# Altium schematic symbol library Microchip.SchLib: 8 symbols
Pins are listed as number, name and electrical type; pins without a type are passive.

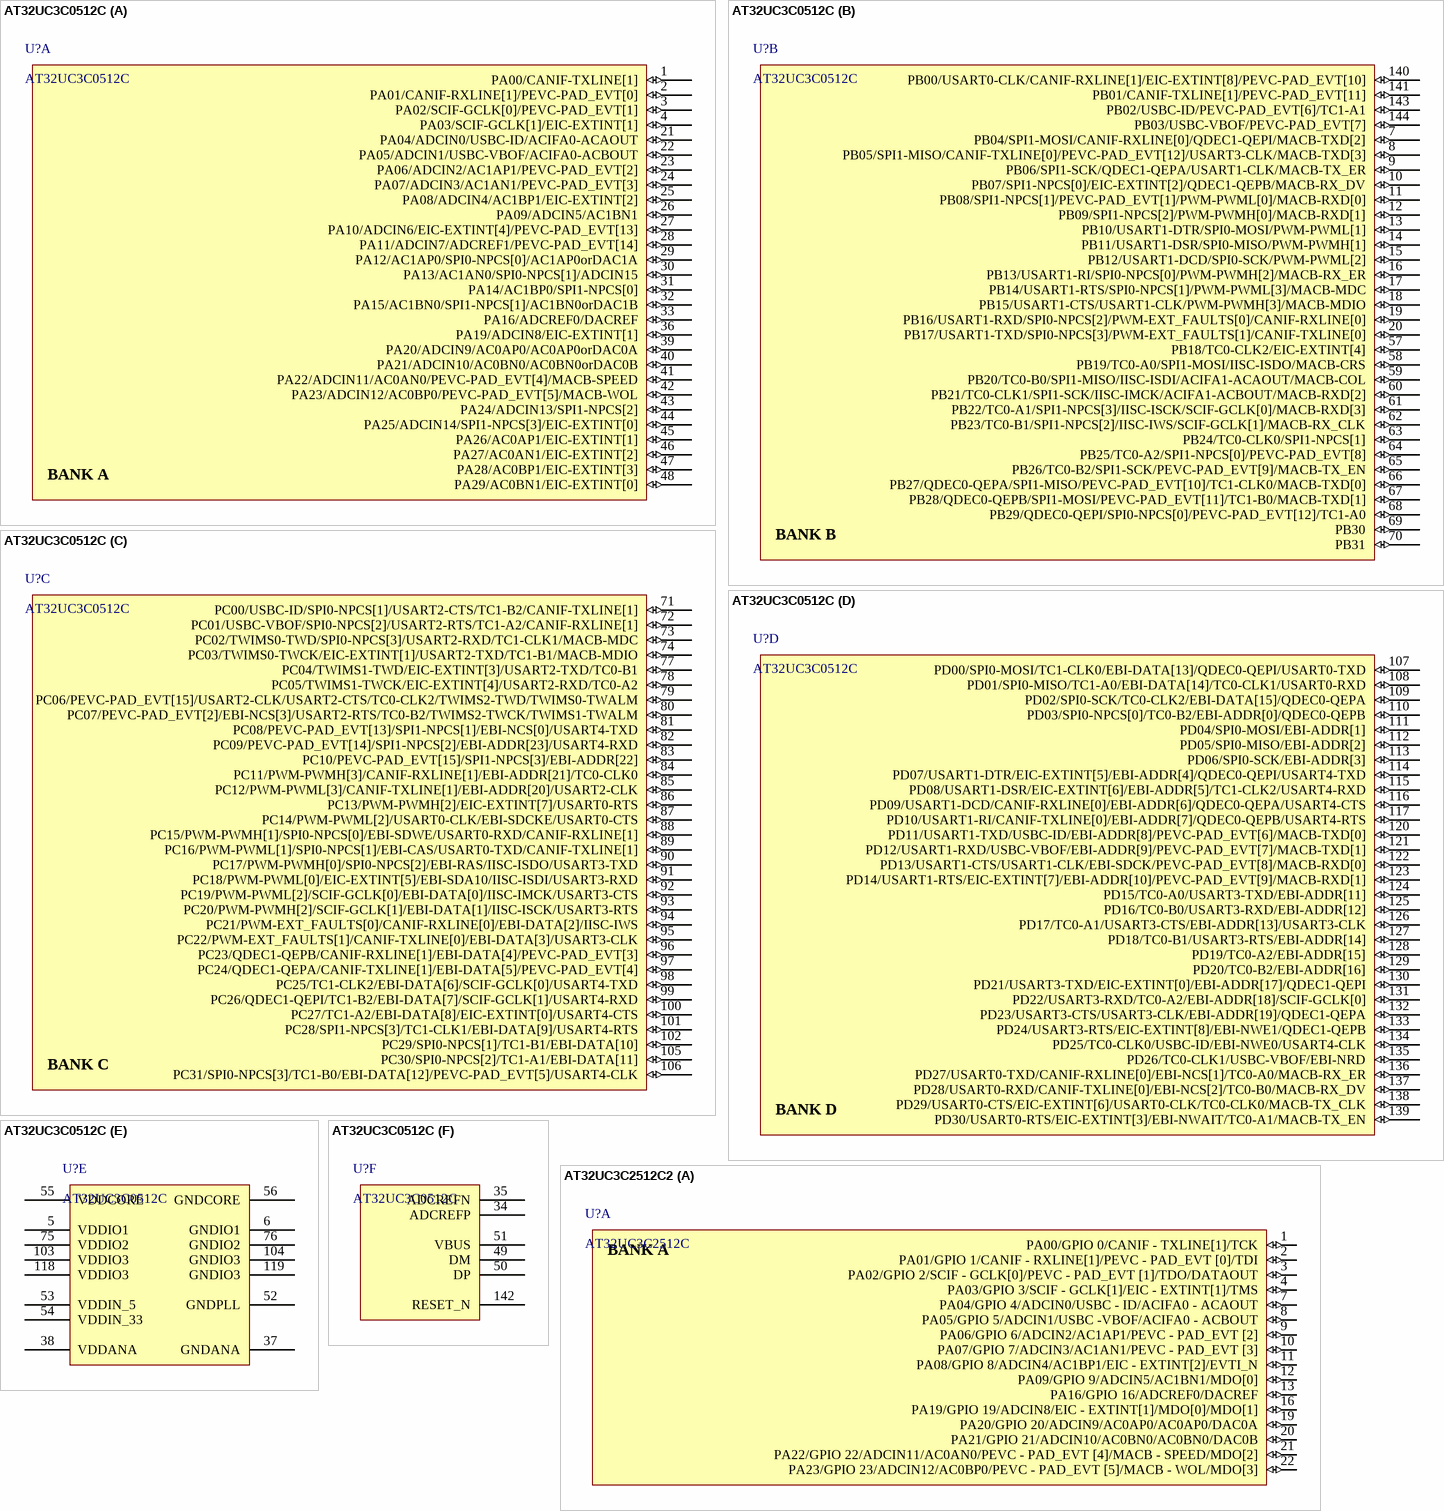
[diagram p0: symbols AT32UC3C0512C to AT32UC3C2512C2]

## AT32UC3C0512C
designator U?
footprint MCP-LQFP144 (TSQFP, 144-Leads, Body 20.00x20.00mm, Pitch 0.50mm, IPC Low Density)
part A pins: 1 PA00/CANIF-TXLINE[1] (io), 2 PA01/CANIF-RXLINE[1]/PEVC-PAD_EVT[0] (io), 3 PA02/SCIF-GCLK[0]/PEVC-PAD_EVT[1] (io), 4 PA03/SCIF-GCLK[1]/EIC-EXTINT[1] (io), 21 PA04/ADCIN0/USBC-ID/ACIFA0-ACAOUT (io), 22 PA05/ADCIN1/USBC-VBOF/ACIFA0-ACBOUT (io), 23 PA06/ADCIN2/AC1AP1/PEVC-PAD_EVT[2] (io), 24 PA07/ADCIN3/AC1AN1/PEVC-PAD_EVT[3] (io), 25 PA08/ADCIN4/AC1BP1/EIC-EXTINT[2] (io), 26 PA09/ADCIN5/AC1BN1 (io), 27 PA10/ADCIN6/EIC-EXTINT[4]/PEVC-PAD_EVT[13] (io), 28 PA11/ADCIN7/ADCREF1/PEVC-PAD_EVT[14] (io), 29 PA12/AC1AP0/SPI0-NPCS[0]/AC1AP0orDAC1A (io), 30 PA13/AC1AN0/SPI0-NPCS[1]/ADCIN15 (io), 31 PA14/AC1BP0/SPI1-NPCS[0] (io), 32 PA15/AC1BN0/SPI1-NPCS[1]/AC1BN0orDAC1B (io), 33 PA16/ADCREF0/DACREF (io), 36 PA19/ADCIN8/EIC-EXTINT[1] (io), 39 PA20/ADCIN9/AC0AP0/AC0AP0orDAC0A (io), 40 PA21/ADCIN10/AC0BN0/AC0BN0orDAC0B (io), 41 PA22/ADCIN11/AC0AN0/PEVC-PAD_EVT[4]/MACB-SPEED (io), 42 PA23/ADCIN12/AC0BP0/PEVC-PAD_EVT[5]/MACB-WOL (io), 43 PA24/ADCIN13/SPI1-NPCS[2] (io), 44 PA25/ADCIN14/SPI1-NPCS[3]/EIC-EXTINT[0] (io), 45 PA26/AC0AP1/EIC-EXTINT[1] (io), 46 PA27/AC0AN1/EIC-EXTINT[2] (io), 47 PA28/AC0BP1/EIC-EXTINT[3] (io), 48 PA29/AC0BN1/EIC-EXTINT[0] (io)
part B pins: 7 PB04/SPI1-MOSI/CANIF-RXLINE[0]/QDEC1-QEPI/MACB-TXD[2] (io), 8 PB05/SPI1-MISO/CANIF-TXLINE[0]/PEVC-PAD_EVT[12]/USART3-CLK/MACB-TXD[3] (io), 9 PB06/SPI1-SCK/QDEC1-QEPA/USART1-CLK/MACB-TX_ER (io), 10 PB07/SPI1-NPCS[0]/EIC-EXTINT[2]/QDEC1-QEPB/MACB-RX_DV (io), 11 PB08/SPI1-NPCS[1]/PEVC-PAD_EVT[1]/PWM-PWML[0]/MACB-RXD[0] (io), 12 PB09/SPI1-NPCS[2]/PWM-PWMH[0]/MACB-RXD[1] (io), 13 PB10/USART1-DTR/SPI0-MOSI/PWM-PWML[1] (io), 14 PB11/USART1-DSR/SPI0-MISO/PWM-PWMH[1] (io), 15 PB12/USART1-DCD/SPI0-SCK/PWM-PWML[2] (io), 16 PB13/USART1-RI/SPI0-NPCS[0]/PWM-PWMH[2]/MACB-RX_ER (io), 17 PB14/USART1-RTS/SPI0-NPCS[1]/PWM-PWML[3]/MACB-MDC (io), 18 PB15/USART1-CTS/USART1-CLK/PWM-PWMH[3]/MACB-MDIO (io), 19 PB16/USART1-RXD/SPI0-NPCS[2]/PWM-EXT_FAULTS[0]/CANIF-RXLINE[0] (io), 20 PB17/USART1-TXD/SPI0-NPCS[3]/PWM-EXT_FAULTS[1]/CANIF-TXLINE[0] (io), 57 PB18/TC0-CLK2/EIC-EXTINT[4] (io), 58 PB19/TC0-A0/SPI1-MOSI/IISC-ISDO/MACB-CRS (io), 59 PB20/TC0-B0/SPI1-MISO/IISC-ISDI/ACIFA1-ACAOUT/MACB-COL (io), 60 PB21/TC0-CLK1/SPI1-SCK/IISC-IMCK/ACIFA1-ACBOUT/MACB-RXD[2] (io), 61 PB22/TC0-A1/SPI1-NPCS[3]/IISC-ISCK/SCIF-GCLK[0]/MACB-RXD[3] (io), 62 PB23/TC0-B1/SPI1-NPCS[2]/IISC-IWS/SCIF-GCLK[1]/MACB-RX_CLK (io), 63 PB24/TC0-CLK0/SPI1-NPCS[1] (io), 64 PB25/TC0-A2/SPI1-NPCS[0]/PEVC-PAD_EVT[8] (io), 65 PB26/TC0-B2/SPI1-SCK/PEVC-PAD_EVT[9]/MACB-TX_EN (io), 66 PB27/QDEC0-QEPA/SPI1-MISO/PEVC-PAD_EVT[10]/TC1-CLK0/MACB-TXD[0] (io), 67 PB28/QDEC0-QEPB/SPI1-MOSI/PEVC-PAD_EVT[11]/TC1-B0/MACB-TXD[1] (io), 68 PB29/QDEC0-QEPI/SPI0-NPCS[0]/PEVC-PAD_EVT[12]/TC1-A0 (io), 69 PB30 (io), 70 PB31 (io), 140 PB00/USART0-CLK/CANIF-RXLINE[1]/EIC-EXTINT[8]/PEVC-PAD_EVT[10] (io), 141 PB01/CANIF-TXLINE[1]/PEVC-PAD_EVT[11] (io), 143 PB02/USBC-ID/PEVC-PAD_EVT[6]/TC1-A1 (io), 144 PB03/USBC-VBOF/PEVC-PAD_EVT[7] (io)
part C pins: 71 PC00/USBC-ID/SPI0-NPCS[1]/USART2-CTS/TC1-B2/CANIF-TXLINE[1] (io), 72 PC01/USBC-VBOF/SPI0-NPCS[2]/USART2-RTS/TC1-A2/CANIF-RXLINE[1] (io), 73 PC02/TWIMS0-TWD/SPI0-NPCS[3]/USART2-RXD/TC1-CLK1/MACB-MDC (io), 74 PC03/TWIMS0-TWCK/EIC-EXTINT[1]/USART2-TXD/TC1-B1/MACB-MDIO (io), 77 PC04/TWIMS1-TWD/EIC-EXTINT[3]/USART2-TXD/TC0-B1 (io), 78 PC05/TWIMS1-TWCK/EIC-EXTINT[4]/USART2-RXD/TC0-A2 (io), 79 PC06/PEVC-PAD_EVT[15]/USART2-CLK/USART2-CTS/TC0-CLK2/TWIMS2-TWD/TWIMS0-TWALM (io), 80 PC07/PEVC-PAD_EVT[2]/EBI-NCS[3]/USART2-RTS/TC0-B2/TWIMS2-TWCK/TWIMS1-TWALM (io), 81 PC08/PEVC-PAD_EVT[13]/SPI1-NPCS[1]/EBI-NCS[0]/USART4-TXD (io), 82 PC09/PEVC-PAD_EVT[14]/SPI1-NPCS[2]/EBI-ADDR[23]/USART4-RXD (io), 83 PC10/PEVC-PAD_EVT[15]/SPI1-NPCS[3]/EBI-ADDR[22] (io), 84 PC11/PWM-PWMH[3]/CANIF-RXLINE[1]/EBI-ADDR[21]/TC0-CLK0 (io), 85 PC12/PWM-PWML[3]/CANIF-TXLINE[1]/EBI-ADDR[20]/USART2-CLK (io), 86 PC13/PWM-PWMH[2]/EIC-EXTINT[7]/USART0-RTS (io), 87 PC14/PWM-PWML[2]/USART0-CLK/EBI-SDCKE/USART0-CTS (io), 88 PC15/PWM-PWMH[1]/SPI0-NPCS[0]/EBI-SDWE/USART0-RXD/CANIF-RXLINE[1] (io), 89 PC16/PWM-PWML[1]/SPI0-NPCS[1]/EBI-CAS/USART0-TXD/CANIF-TXLINE[1] (io), 90 PC17/PWM-PWMH[0]/SPI0-NPCS[2]/EBI-RAS/IISC-ISDO/USART3-TXD (io), 91 PC18/PWM-PWML[0]/EIC-EXTINT[5]/EBI-SDA10/IISC-ISDI/USART3-RXD (io), 92 PC19/PWM-PWML[2]/SCIF-GCLK[0]/EBI-DATA[0]/IISC-IMCK/USART3-CTS (io), 93 PC20/PWM-PWMH[2]/SCIF-GCLK[1]/EBI-DATA[1]/IISC-ISCK/USART3-RTS (io), 94 PC21/PWM-EXT_FAULTS[0]/CANIF-RXLINE[0]/EBI-DATA[2]/IISC-IWS (io), 95 PC22/PWM-EXT_FAULTS[1]/CANIF-TXLINE[0]/EBI-DATA[3]/USART3-CLK (io), 96 PC23/QDEC1-QEPB/CANIF-RXLINE[1]/EBI-DATA[4]/PEVC-PAD_EVT[3] (io), 97 PC24/QDEC1-QEPA/CANIF-TXLINE[1]/EBI-DATA[5]/PEVC-PAD_EVT[4] (io), 98 PC25/TC1-CLK2/EBI-DATA[6]/SCIF-GCLK[0]/USART4-TXD (io), 99 PC26/QDEC1-QEPI/TC1-B2/EBI-DATA[7]/SCIF-GCLK[1]/USART4-RXD (io), 100 PC27/TC1-A2/EBI-DATA[8]/EIC-EXTINT[0]/USART4-CTS (io), 101 PC28/SPI1-NPCS[3]/TC1-CLK1/EBI-DATA[9]/USART4-RTS (io), 102 PC29/SPI0-NPCS[1]/TC1-B1/EBI-DATA[10] (io), 105 PC30/SPI0-NPCS[2]/TC1-A1/EBI-DATA[11] (io), 106 PC31/SPI0-NPCS[3]/TC1-B0/EBI-DATA[12]/PEVC-PAD_EVT[5]/USART4-CLK (io)
part D pins: 107 PD00/SPI0-MOSI/TC1-CLK0/EBI-DATA[13]/QDEC0-QEPI/USART0-TXD (io), 108 PD01/SPI0-MISO/TC1-A0/EBI-DATA[14]/TC0-CLK1/USART0-RXD (io), 109 PD02/SPI0-SCK/TC0-CLK2/EBI-DATA[15]/QDEC0-QEPA (io), 110 PD03/SPI0-NPCS[0]/TC0-B2/EBI-ADDR[0]/QDEC0-QEPB (io), 111 PD04/SPI0-MOSI/EBI-ADDR[1] (io), 112 PD05/SPI0-MISO/EBI-ADDR[2] (io), 113 PD06/SPI0-SCK/EBI-ADDR[3] (io), 114 PD07/USART1-DTR/EIC-EXTINT[5]/EBI-ADDR[4]/QDEC0-QEPI/USART4-TXD (io), 115 PD08/USART1-DSR/EIC-EXTINT[6]/EBI-ADDR[5]/TC1-CLK2/USART4-RXD (io), 116 PD09/USART1-DCD/CANIF-RXLINE[0]/EBI-ADDR[6]/QDEC0-QEPA/USART4-CTS (io), 117 PD10/USART1-RI/CANIF-TXLINE[0]/EBI-ADDR[7]/QDEC0-QEPB/USART4-RTS (io), 120 PD11/USART1-TXD/USBC-ID/EBI-ADDR[8]/PEVC-PAD_EVT[6]/MACB-TXD[0] (io), 121 PD12/USART1-RXD/USBC-VBOF/EBI-ADDR[9]/PEVC-PAD_EVT[7]/MACB-TXD[1] (io), 122 PD13/USART1-CTS/USART1-CLK/EBI-SDCK/PEVC-PAD_EVT[8]/MACB-RXD[0] (io), 123 PD14/USART1-RTS/EIC-EXTINT[7]/EBI-ADDR[10]/PEVC-PAD_EVT[9]/MACB-RXD[1] (io), 124 PD15/TC0-A0/USART3-TXD/EBI-ADDR[11] (io), 125 PD16/TC0-B0/USART3-RXD/EBI-ADDR[12] (io), 126 PD17/TC0-A1/USART3-CTS/EBI-ADDR[13]/USART3-CLK (io), 127 PD18/TC0-B1/USART3-RTS/EBI-ADDR[14] (io), 128 PD19/TC0-A2/EBI-ADDR[15] (io), 129 PD20/TC0-B2/EBI-ADDR[16] (io), 130 PD21/USART3-TXD/EIC-EXTINT[0]/EBI-ADDR[17]/QDEC1-QEPI (io), 131 PD22/USART3-RXD/TC0-A2/EBI-ADDR[18]/SCIF-GCLK[0] (io), 132 PD23/USART3-CTS/USART3-CLK/EBI-ADDR[19]/QDEC1-QEPA (io), 133 PD24/USART3-RTS/EIC-EXTINT[8]/EBI-NWE1/QDEC1-QEPB (io), 134 PD25/TC0-CLK0/USBC-ID/EBI-NWE0/USART4-CLK (io), 135 PD26/TC0-CLK1/USBC-VBOF/EBI-NRD (io), 136 PD27/USART0-TXD/CANIF-RXLINE[0]/EBI-NCS[1]/TC0-A0/MACB-RX_ER (io), 137 PD28/USART0-RXD/CANIF-TXLINE[0]/EBI-NCS[2]/TC0-B0/MACB-RX_DV (io), 138 PD29/USART0-CTS/EIC-EXTINT[6]/USART0-CLK/TC0-CLK0/MACB-TX_CLK (io), 139 PD30/USART0-RTS/EIC-EXTINT[3]/EBI-NWAIT/TC0-A1/MACB-TX_EN (io)
part E pins: 5 VDDIO1 (power) "GND", 6 GNDIO1 (power) "GND", 37 GNDANA (power) "GND", 38 VDDANA (power) "GND", 52 GNDPLL (power), 53 VDDIN_5 (power), 54 VDDIN_33 (power), 55 VDDCORE (power), 56 GNDCORE (power), 75 VDDIO2 (power), 76 GNDIO2 (power), 103 VDDIO3 (power), 104 GNDIO3 (power), 118 VDDIO3 (power) "GND", 119 GNDIO3 (power) "GND"
part F pins: 34 ADCREFP (power), 35 ADCREFN (power), 49 DM (power), 50 DP (power), 51 VBUS (power), 142 RESET_N "GND"
part A text: BANK A
part B text: BANK B
part C text: BANK C
part D text: BANK D

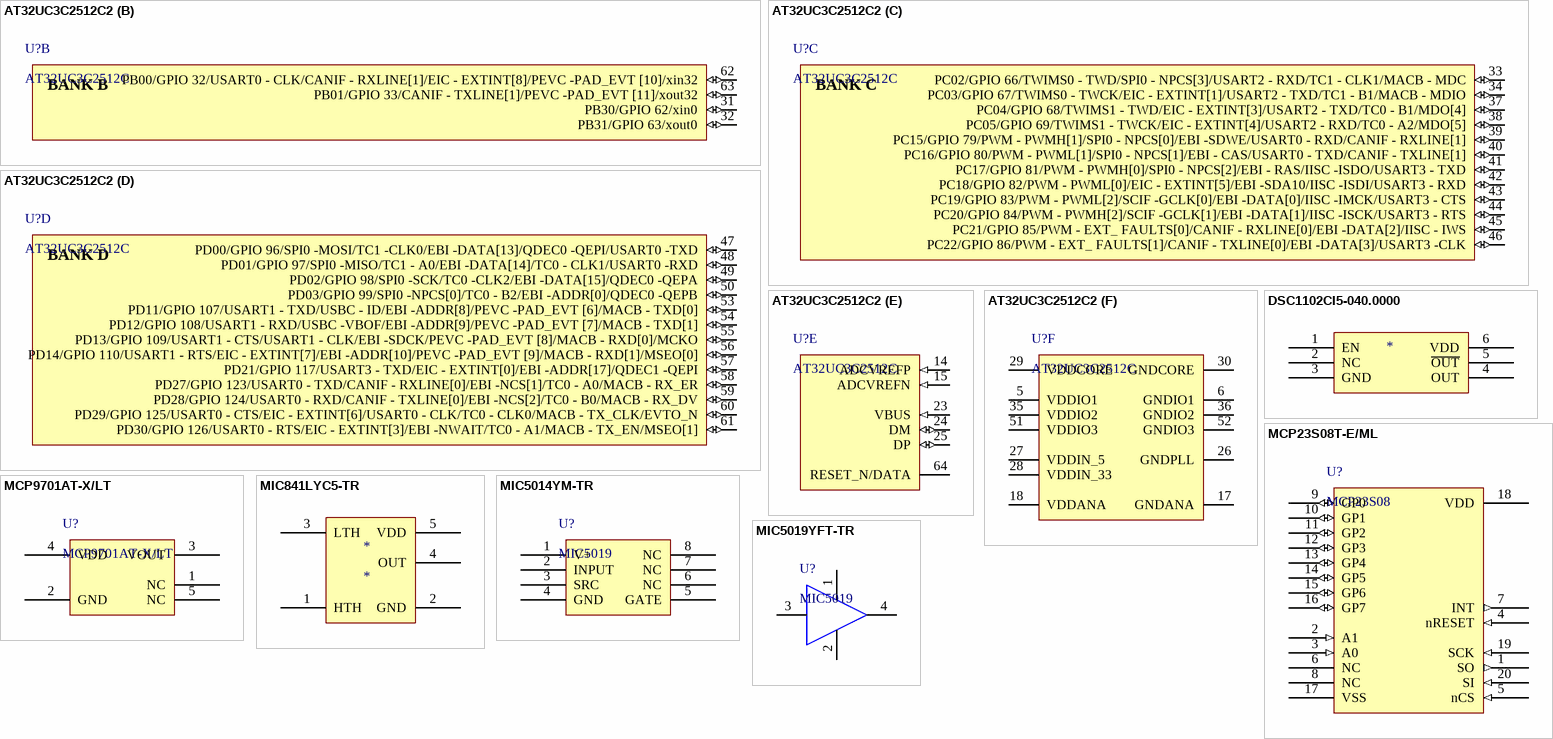
[diagram p1: symbols AT32UC3C2512C2 to MIC5019YFT-TR]

## AT32UC3C2512C2
designator U?, comment AT32UC3C2512C
part A pins: 1 PA00/GPIO 0/CANIF - TXLINE[1]/TCK (io), 2 PA01/GPIO 1/CANIF - RXLINE[1]/PEVC - PAD_EVT [0]/TDI (io), 3 PA02/GPIO 2/SCIF - GCLK[0]/PEVC - PAD_EVT [1]/TDO/DATAOUT (io), 4 PA03/GPIO 3/SCIF - GCLK[1]/EIC - EXTINT[1]/TMS (io), 7 PA04/GPIO 4/ADCIN0/USBC - ID/ACIFA0 - ACAOUT (io), 8 PA05/GPIO 5/ADCIN1/USBC -VBOF/ACIFA0 - ACBOUT (io), 9 PA06/GPIO 6/ADCIN2/AC1AP1/PEVC - PAD_EVT [2] (io), 10 PA07/GPIO 7/ADCIN3/AC1AN1/PEVC - PAD_EVT [3] (io), 11 PA08/GPIO 8/ADCIN4/AC1BP1/EIC - EXTINT[2]/EVTI_N (io), 12 PA09/GPIO 9/ADCIN5/AC1BN1/MDO[0] (io), 13 PA16/GPIO 16/ADCREF0/DACREF (io), 16 PA19/GPIO 19/ADCIN8/EIC - EXTINT[1]/MDO[0]/MDO[1] (io), 19 PA20/GPIO 20/ADCIN9/AC0AP0/AC0AP0/DAC0A (io), 20 PA21/GPIO 21/ADCIN10/AC0BN0/AC0BN0/DAC0B (io), 21 PA22/GPIO 22/ADCIN11/AC0AN0/PEVC - PAD_EVT [4]/MACB - SPEED/MDO[2] (io), 22 PA23/GPIO 23/ADCIN12/AC0BP0/PEVC - PAD_EVT [5]/MACB - WOL/MDO[3] (io)
part B pins: 31 PB30/GPIO 62/xin0 (io), 32 PB31/GPIO 63/xout0 (io), 62 PB00/GPIO 32/USART0 - CLK/CANIF - RXLINE[1]/EIC - EXTINT[8]/PEVC -PAD_EVT [10]/xin32 (io), 63 PB01/GPIO 33/CANIF - TXLINE[1]/PEVC -PAD_EVT [11]/xout32 (io)
part C pins: 33 PC02/GPIO 66/TWIMS0 - TWD/SPI0 - NPCS[3]/USART2 - RXD/TC1 - CLK1/MACB - MDC (io), 34 PC03/GPIO 67/TWIMS0 - TWCK/EIC - EXTINT[1]/USART2 - TXD/TC1 - B1/MACB - MDIO (io), 37 PC04/GPIO 68/TWIMS1 - TWD/EIC - EXTINT[3]/USART2 - TXD/TC0 - B1/MDO[4] (io), 38 PC05/GPIO 69/TWIMS1 - TWCK/EIC - EXTINT[4]/USART2 - RXD/TC0 - A2/MDO[5] (io), 39 PC15/GPIO 79/PWM - PWMH[1]/SPI0 - NPCS[0]/EBI -SDWE/USART0 - RXD/CANIF - RXLINE[1] (io), 40 PC16/GPIO 80/PWM - PWML[1]/SPI0 - NPCS[1]/EBI - CAS/USART0 - TXD/CANIF - TXLINE[1] (io), 41 PC17/GPIO 81/PWM - PWMH[0]/SPI0 - NPCS[2]/EBI - RAS/IISC -ISDO/USART3 - TXD (io), 42 PC18/GPIO 82/PWM - PWML[0]/EIC - EXTINT[5]/EBI -SDA10/IISC -ISDI/USART3 - RXD (io), 43 PC19/GPIO 83/PWM - PWML[2]/SCIF -GCLK[0]/EBI -DATA[0]/IISC -IMCK/USART3 - CTS (io), 44 PC20/GPIO 84/PWM - PWMH[2]/SCIF -GCLK[1]/EBI -DATA[1]/IISC -ISCK/USART3 - RTS (io), 45 PC21/GPIO 85/PWM - EXT_ FAULTS[0]/CANIF - RXLINE[0]/EBI -DATA[2]/IISC - IWS (io), 46 PC22/GPIO 86/PWM - EXT_ FAULTS[1]/CANIF - TXLINE[0]/EBI -DATA[3]/USART3 -CLK (io)
part D pins: 47 PD00/GPIO 96/SPI0 -MOSI/TC1 -CLK0/EBI -DATA[13]/QDEC0 -QEPI/USART0 -TXD (io), 48 PD01/GPIO 97/SPI0 -MISO/TC1 - A0/EBI -DATA[14]/TC0 - CLK1/USART0 -RXD (io), 49 PD02/GPIO 98/SPI0 -SCK/TC0 -CLK2/EBI -DATA[15]/QDEC0 -QEPA (io), 50 PD03/GPIO 99/SPI0 -NPCS[0]/TC0 - B2/EBI -ADDR[0]/QDEC0 -QEPB (io), 53 PD11/GPIO 107/USART1 - TXD/USBC - ID/EBI -ADDR[8]/PEVC -PAD_EVT [6]/MACB - TXD[0] (io), 54 PD12/GPIO 108/USART1 - RXD/USBC -VBOF/EBI -ADDR[9]/PEVC -PAD_EVT [7]/MACB - TXD[1] (io), 55 PD13/GPIO 109/USART1 - CTS/USART1 - CLK/EBI -SDCK/PEVC -PAD_EVT [8]/MACB - RXD[0]/MCKO (io), 56 PD14/GPIO 110/USART1 - RTS/EIC - EXTINT[7]/EBI -ADDR[10]/PEVC -PAD_EVT [9]/MACB - RXD[1]/MSEO[0] (io), 57 PD21/GPIO 117/USART3 - TXD/EIC - EXTINT[0]/EBI -ADDR[17]/QDEC1 -QEPI (io), 58 PD27/GPIO 123/USART0 - TXD/CANIF - RXLINE[0]/EBI -NCS[1]/TC0 - A0/MACB - RX_ER (io), 59 PD28/GPIO 124/USART0 - RXD/CANIF - TXLINE[0]/EBI -NCS[2]/TC0 - B0/MACB - RX_DV (io), 60 PD29/GPIO 125/USART0 - CTS/EIC - EXTINT[6]/USART0 - CLK/TC0 - CLK0/MACB - TX_CLK/EVTO_N (io), 61 PD30/GPIO 126/USART0 - RTS/EIC - EXTINT[3]/EBI -NWAIT/TC0 - A1/MACB - TX_EN/MSEO[1] (io)
part E pins: 14 ADCVREFP (in), 15 ADCVREFN (in), 23 VBUS (in), 24 DM (io), 25 DP (io), 64 RESET_N/DATA
part F pins: 5 VDDIO1 (power), 6 GNDIO1 (power), 17 GNDANA (power), 18 VDDANA (power), 26 GNDPLL (power), 27 VDDIN_5 (power), 28 VDDIN_33 (power), 29 VDDCORE (power), 30 GNDCORE (power), 35 VDDIO2 (power), 36 GNDIO2 (power), 51 VDDIO3 (power), 52 GNDIO3 (power)
part A text: BANK A
part B text: BANK B
part C text: BANK C
part D text: BANK D

## DSC1102CI5-040.0000
designator *  (value not drawn)
pins: 1 EN, 2 NC, 3 GND, 4 OUT, 5 ~{OUT}, 6 VDD

## MCP23S08T-E/ML
designator U?, comment MCP23S08
pins: 1 SO (out), 2 A1 (in), 3 A0 (in), 4 nRESET (in), 5 nCS (in), 6 NC, 7 INT (out), 8 NC, 9 GP0 (io), 10 GP1 (io), 11 GP2 (io), 12 GP3 (io), 13 GP4 (io), 14 GP5 (io), 15 GP6 (io), 16 GP7 (io), 17 VSS, 18 VDD, 19 SCK (in), 20 SI (in)

## MCP9701AT-X/LT
designator U?
pins: 1 NC "Not connected to the die. It can be used to  improve  thermal  conduction  to  the  package", 2 GND, 3 VOUT, 4 VDD, 5 NC "Not connected to the die. It can be used to  improve  thermal  conduction  to  the  package"

## MIC841LYC5-TR
designator *
pins: 1 HTH, 2 GND, 3 LTH, 4 OUT, 5 VDD

## MIC5014YM-TR
designator U?, comment MIC5019
pins: 1 V+, 2 INPUT, 3 SRC, 4 GND, 5 GATE, 6 NC, 7 NC, 8 NC

## MIC5019YFT-TR
designator U?, comment MIC5019
pins: 1 VDD, 2 GND, 3 IN, 4 OUT